# Altium footprint library Radial_Fuse_Pcb.PcbLib: 1 footprints
Each footprint in its own frame and in the unit in brackets; x right, y up, seen from the top. Pads: shape width x height; smd on the part's side, far side on the other; paste and mask are expansions set on the pad; w line width, h text height; cw(c..) or ccw(c..) is an arc to the next point about the centre after c.
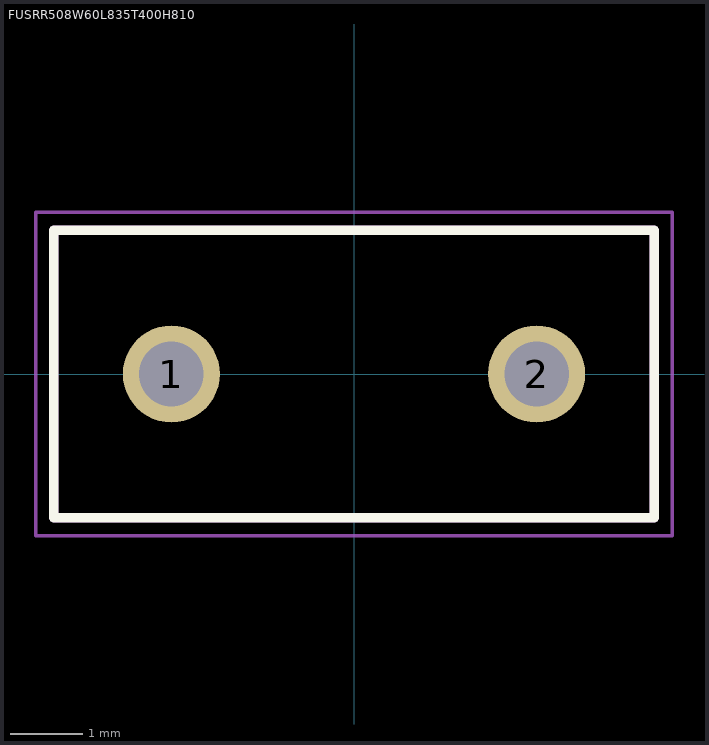
[diagram p0: the footprint, top view; thin cyan lines are the x and y axes]

## FUSRR508W60L835T400H810 [mm]
height 8.1
pads (2):
  round 1.35 hole 0.9: 1(-2.54,0) 2(2.54,0)
Top Overlay:
  lines w0.127: -4.175,-2 4.175,-2 4.175,2 -4.175,2 -4.175,-2
Assembly Top:
  lines w0.127: -4.175,-2 -4.175,2 4.175,2 4.175,-2 -4.175,-2
Courtyard Top:
  lines w0.05: -4.425,-2.25 4.425,-2.25 4.425,2.25 -4.425,2.25 -4.425,-2.25
3D body "step_temp.STEP": height 8.1, standoff -11, extent -4.175,-2 4.175,2